# EAGLE library part ISP (library pinheads)
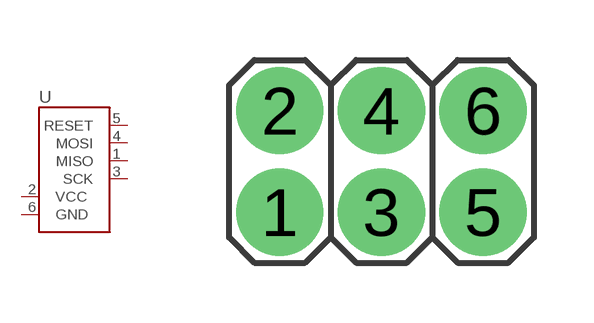
[diagram p41: symbol with the pads of 2X03; footprint 2X03]

Designator prefix -

## ISP  [2X03]
1  MISO
2  VCC
3  SCK
4  MOSI
5  RESET
6  GND

## Footprint 2X03 (pad centres in mm)
PIN HEADER
drill 1 pad 2.184: 1 -2.54,-1.27; 2 -2.54,1.27; 3 0,-1.27; 4 0,1.27; 5 2.54,-1.27; 6 2.54,1.27